# Altium schematic symbol library ws2812b.SchLib: 1 symbol
Pins are listed as number, name and electrical type; pins without a type are passive.

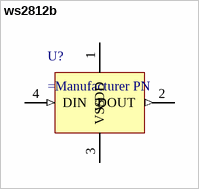
[diagram p0: symbol ws2812b]

## ws2812b
designator U?
WS2812B, RGB LED, the 4-pin variety
pins: 1 VDD (power), 2 DOUT (out), 3 VSS (power), 4 DIN (in)